# EAGLE library part SN65HVD232 (library SSI)
CAN Transceiver
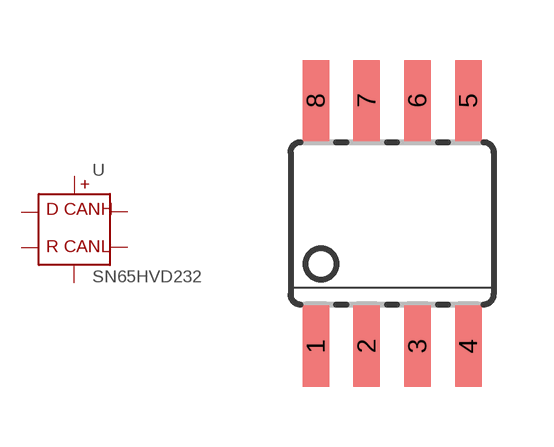
[diagram p32: symbol with the pads of SOIC08; footprint SOIC08]

Designator prefix -

## SN65HVD232SOIC08  [SOIC08]
1  D
2  GND
3  VCC
4  R
6  CANL
7  CANH

## Footprint SOIC08 (pad centres in mm)
Small Outline Package
smd 0.66 x 2.032: 1 -1.905,-3.073; 2 -0.635,-3.073; 3 0.635,-3.073; 4 1.905,-3.073; 5 1.905,3.073; 6 0.635,3.073; 7 -0.635,3.073; 8 -1.905,3.073